# Altium integrated library TI Amplifiers and Linear Operational Amplifier Fully Differential Amplifier.IntLib: 262 symbols (part 10 of 11)
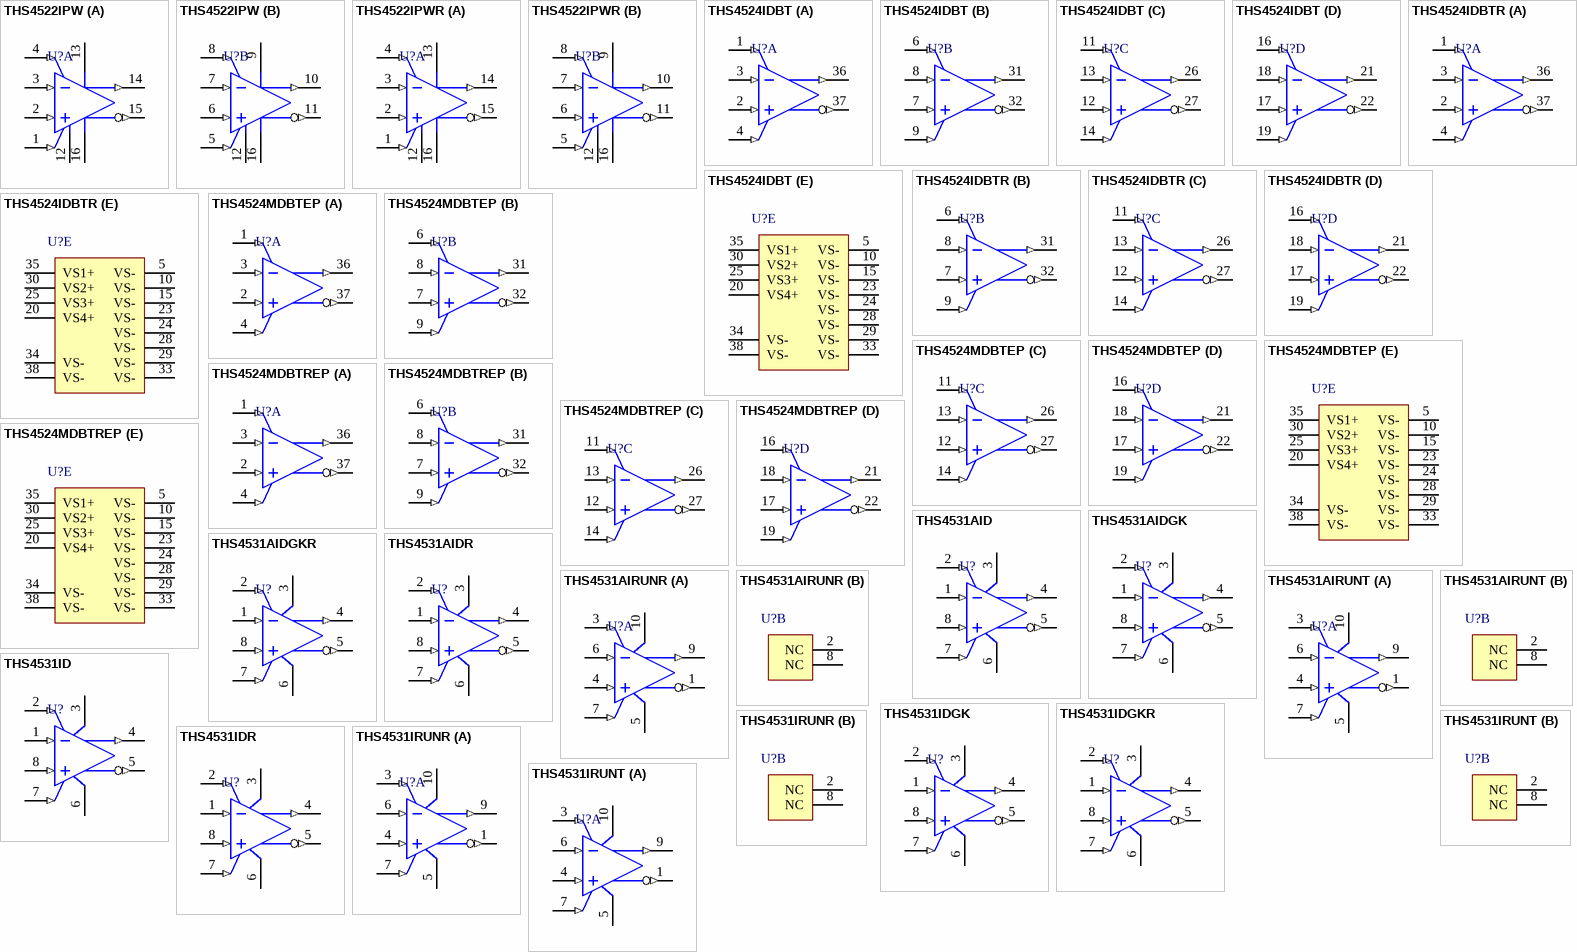
[diagram p16: symbols THS4522IPW to THS4531IRUNT]

## THS4524IDBT
designator U?
Very Low Power Quad Channel Rail-to-Rail Output Fully Differential Amplifier, 2.5 to 5.5 V, -40 to 85 degC, 38-pin SOP (DBT38), Green (RoHS & no Sb/Br); Manufacturer: Texas Instruments; PartNumber: THS4524IDBT; 2nd Harmonic(dBc): 85; 3rd Harmonic(dBc): 90; @ MHz: 1; BW @ Acl(MHz): 135; Io(Typ)(mA): 35; Iq per channel(Max)(mA): 1.2; Number of Channels: 4; Offset Voltage Drift (+/-)(Max)(uV/Degrees Celsius: 2; Rail-Rail: Out; Slew Rate(Typ)(V/us): 420; Vn at Flatband(Typ)(nV/rtHz): 4.6; Vs(Max)(V): 5.5; Vs(Min)(V): 2.5; DatasheetVersion: SBOS458F; PackageVersion: 4073252-6/I, 03/2011; PackageReference: DBT38; PackageDescription: 38-Pin Plastic Small Outline, Body 9.7 x 4.4 mm, Pitch 0.5 mm; Supplier 1: Digi-Key; Supplier Part Number 1: 296-24593-5-ND; Supplier 2: Farnell; Supplier Part Number 2: 1735571; Supplier 3: Newark; Supplier Part Number 3: 05R5042; Supplier 4: Mouser; Supplier Part Number 4: 595-THS4524IDBT; Eco-Plan: Green (RoHS & no Sb/Br); SubFamily: Fully Differential Amplifier; Vio(Max)(mV): 2; Mounting Technology: Surface Mount; Code_JEDEC: MO-153; ComponentLink1Description: Manufacturer URL; ComponentLink1URL: http://www.ti.com/; ComponentLink2Description: Datasheet; ComponentLink2URL: http://www.ti.com/general/docs/lit/getliterature.tsp?genericPartNumber=THS4524&fileType=pdf; ComponentLink3Description: Package Specification; ComponentLink3URL: http://www.ti.com/litv/pdf/mpds368
footprint TI-DBT38_N (SOP, 38-Leads, Body 9.7x4.4mm, Pitch 0.5mm, IPC Medium Density)
footprint TI-DBT38_L (SOP, 38-Leads, Body 9.7x4.4mm, Pitch 0.5mm, IPC High Density)
footprint TI-DBT38_M (SOP, 38-Leads, Body 9.7x4.4mm, Pitch 0.5mm, IPC Low Density)
part A pins: 1 ~{PD}1 (in) "Power down 1. P\D\ = logic low puts channel into low-power mode. P\D\ = logic high or open for normal operation.", 2 VIN1+ (in) "Noninverting amplifier 1 input", 3 VIN1- (in) "Inverting amplifier 1 input", 4 VOCM1 (in) "Common-mode voltage input 1", 36 VOUT1+ (out) "Noninverting amplifier 1 output", 37 VOUT1- (out) "Inverting amplifier 1 output"
part B pins: 6 ~{PD}2 (in) "Power down 2. P\D\ = logic low puts channel into low-power mode. P\D\ = logic high or open for normal operation.", 7 VIN2+ (in) "Noninverting amplifier 2 input", 8 VIN2- (in) "Inverting amplifier 2 input", 9 VOCM2 (in) "Common-mode voltage input 2", 31 VOUT2+ (out) "Noninverting amplifier 2 output", 32 VOUT2- (out) "Inverting amplifier 2 output"
part C pins: 11 ~{PD}3 (in) "Power down 3. P\D\ = logic low puts channel into low-power mode. P\D\ = logic high or open for normal operation.", 12 VIN3+ (in) "Noninverting amplifier 3 input", 13 VIN3- (in) "Inverting amplifier 3 input", 14 VOCM3 (in) "Common-mode voltage input 3", 26 VOUT3+ (out) "Noninverting amplifier3 output", 27 VOUT3- (out) "Inverting amplifier3 output"
part D pins: 16 ~{PD}4 (in) "Power down 4. P\D\ = logic low puts channel into low-power mode. P\D\ = logic high or open for normal operation.", 17 VIN4+ (in) "Noninverting amplifier 4 input", 18 VIN4- (in) "Inverting amplifier 4 input", 19 VOCM4 (in) "Common-mode voltage input 4", 21 VOUT4+ (out) "Noninverting amplifier 4 output", 22 VOUT4- (out) "Inverting amplifier 4 output"
part E pins: 5 VS- (power) "Negative power-supply input. Note that VS- is tied together on multi-channel devices.", 10 VS- (power) "Negative power-supply input. Note that VS- is tied together on multi-channel devices.", 15 VS- (power) "Negative power-supply input. Note that VS- is tied together on multi-channel devices.", 20 VS4+ (power) "Amplifier 4 positive power-supply input", 23 VS- (power) "Negative power-supply input. Note that VS- is tied together on multi-channel devices.", 24 VS- (power) "Negative power-supply input. Note that VS- is tied together on multi-channel devices.", 25 VS3+ (power) "Amplifier 3 positive power-supply input", 28 VS- (power) "Negative power-supply input. Note that VS- is tied together on multi-channel devices.", 29 VS- (power) "Negative power-supply input. Note that VS- is tied together on multi-channel devices.", 30 VS2+ (power) "Amplifier 2 positive power-supply input", 33 VS- (power) "Negative power-supply input. Note that VS- is tied together on multi-channel devices.", 34 VS- (power) "Negative power-supply input. Note that VS- is tied together on multi-channel devices.", 35 VS1+ (power) "Amplifier 1 positive power-supply input", 38 VS- (power) "Negative power-supply input. Note that VS- is tied together on multi-channel devices."

## THS4524IDBTR
designator U?
Very Low Power Quad Channel Rail-to-Rail Output Fully Differential Amplifier, 2.5 to 5.5 V, -40 to 85 degC, 38-pin SOP (DBT38), Green (RoHS & no Sb/Br); Manufacturer: Texas Instruments; PartNumber: THS4524IDBTR; 2nd Harmonic(dBc): 85; 3rd Harmonic(dBc): 90; @ MHz: 1; BW @ Acl(MHz): 135; Io(Typ)(mA): 35; Iq per channel(Max)(mA): 1.2; Number of Channels: 4; Offset Voltage Drift (+/-)(Max)(uV/Degrees Celsius: 2; Rail-Rail: Out; Slew Rate(Typ)(V/us): 420; Vn at Flatband(Typ)(nV/rtHz): 4.6; Vs(Max)(V): 5.5; Vs(Min)(V): 2.5; DatasheetVersion: SBOS458F; PackageVersion: 4073252-6/I, 03/2011; PackageReference: DBT38; PackageDescription: 38-Pin Plastic Small Outline, Body 9.7 x 4.4 mm, Pitch 0.5 mm; Supplier 1: Digi-Key; Supplier Part Number 1: 296-24315-2-ND; Supplier 2: Digi-Key; Supplier Part Number 2: 296-24315-1-ND; Supplier 3: Digi-Key; Supplier Part Number 3: 296-24315-6-ND; Supplier 4: Newark; Supplier Part Number 4: 09R6467; Supplier 5: Mouser; Supplier Part Number 5: 595-THS4524IDBTR; Eco-Plan: Green (RoHS & no Sb/Br); SubFamily: Fully Differential Amplifier; Vio(Max)(mV): 2; Mounting Technology: Surface Mount; Code_JEDEC: MO-153; ComponentLink1Description: Manufacturer URL; ComponentLink1URL: http://www.ti.com/; ComponentLink2Description: Datasheet; ComponentLink2URL: http://www.ti.com/general/docs/lit/getliterature.tsp?genericPartNumber=THS4524&fileType=pdf; ComponentLink3Description: Package Specification; ComponentLink3URL: http://www.ti.com/litv/pdf/mpds368
footprint TI-DBT38_N (SOP, 38-Leads, Body 9.7x4.4mm, Pitch 0.5mm, IPC Medium Density)
footprint TI-DBT38_L (SOP, 38-Leads, Body 9.7x4.4mm, Pitch 0.5mm, IPC High Density)
footprint TI-DBT38_M (SOP, 38-Leads, Body 9.7x4.4mm, Pitch 0.5mm, IPC Low Density)
part A pins: 1 ~{PD}1 (in) "Power down 1. P\D\ = logic low puts channel into low-power mode. P\D\ = logic high or open for normal operation.", 2 VIN1+ (in) "Noninverting amplifier 1 input", 3 VIN1- (in) "Inverting amplifier 1 input", 4 VOCM1 (in) "Common-mode voltage input 1", 36 VOUT1+ (out) "Noninverting amplifier 1 output", 37 VOUT1- (out) "Inverting amplifier 1 output"
part B pins: 6 ~{PD}2 (in) "Power down 2. P\D\ = logic low puts channel into low-power mode. P\D\ = logic high or open for normal operation.", 7 VIN2+ (in) "Noninverting amplifier 2 input", 8 VIN2- (in) "Inverting amplifier 2 input", 9 VOCM2 (in) "Common-mode voltage input 2", 31 VOUT2+ (out) "Noninverting amplifier 2 output", 32 VOUT2- (out) "Inverting amplifier 2 output"
part C pins: 11 ~{PD}3 (in) "Power down 3. P\D\ = logic low puts channel into low-power mode. P\D\ = logic high or open for normal operation.", 12 VIN3+ (in) "Noninverting amplifier 3 input", 13 VIN3- (in) "Inverting amplifier 3 input", 14 VOCM3 (in) "Common-mode voltage input 3", 26 VOUT3+ (out) "Noninverting amplifier3 output", 27 VOUT3- (out) "Inverting amplifier3 output"
part D pins: 16 ~{PD}4 (in) "Power down 4. P\D\ = logic low puts channel into low-power mode. P\D\ = logic high or open for normal operation.", 17 VIN4+ (in) "Noninverting amplifier 4 input", 18 VIN4- (in) "Inverting amplifier 4 input", 19 VOCM4 (in) "Common-mode voltage input 4", 21 VOUT4+ (out) "Noninverting amplifier 4 output", 22 VOUT4- (out) "Inverting amplifier 4 output"
part E pins: 5 VS- (power) "Negative power-supply input. Note that VS- is tied together on multi-channel devices.", 10 VS- (power) "Negative power-supply input. Note that VS- is tied together on multi-channel devices.", 15 VS- (power) "Negative power-supply input. Note that VS- is tied together on multi-channel devices.", 20 VS4+ (power) "Amplifier 4 positive power-supply input", 23 VS- (power) "Negative power-supply input. Note that VS- is tied together on multi-channel devices.", 24 VS- (power) "Negative power-supply input. Note that VS- is tied together on multi-channel devices.", 25 VS3+ (power) "Amplifier 3 positive power-supply input", 28 VS- (power) "Negative power-supply input. Note that VS- is tied together on multi-channel devices.", 29 VS- (power) "Negative power-supply input. Note that VS- is tied together on multi-channel devices.", 30 VS2+ (power) "Amplifier 2 positive power-supply input", 33 VS- (power) "Negative power-supply input. Note that VS- is tied together on multi-channel devices.", 34 VS- (power) "Negative power-supply input. Note that VS- is tied together on multi-channel devices.", 35 VS1+ (power) "Amplifier 1 positive power-supply input", 38 VS- (power) "Negative power-supply input. Note that VS- is tied together on multi-channel devices."

## THS4524MDBTEP
designator U?
Enhanced Product Very Low Power Quad Channel Rail-to-Rail Output Fully Differential Amplifier, 2.5 to 5.5 V, -55 to 125 degC, 38-pin SOP (DBT38), Green (RoHS & no Sb/Br); Manufacturer: Texas Instruments; PartNumber: THS4524MDBTEP; CMRR(Min)(dB): 73.8; GBW(Typ)(MHz): 93; Iq per channel(Max)(mA): 1.25; Number of Channels: 4; Offset Drift(Typ)(uV/C): 2; Rating: HiRel Enhanced Product; Slew Rate(Typ)(V/us): 420; SubFamily: Fully Differential Amplifier, High Speed Amplifier (>=50MHz); Total Supply Voltage(Max)(+5V is 5, +/-5V is 10): 5.5; Total Supply Voltage(Min)(+5V is 5, +/-5V is 10): 2.5; Vio (25C)(Max)(mV): 7; DatasheetVersion: SBOS609; PackageVersion: 4073252-6/I, 03/2011; PackageReference: DBT38; PackageDescription: 38-Pin Plastic Small Outline, Body 9.7 x 4.4 mm, Pitch 0.5 mm; Eco-Plan: Green (RoHS & no Sb/Br); Mounting Technology: Surface Mount; Code_JEDEC: MO-153; ComponentLink1Description: Manufacturer URL; ComponentLink1URL: http://www.ti.com/; ComponentLink2Description: Datasheet; ComponentLink2URL: http://www.ti.com/lit/ds/symlink/ths4524-ep.pdf; ComponentLink3Description: Package Specification; ComponentLink3URL: http://www.ti.com/litv/pdf/mpds368
footprint TI-DBT38_N (SOP, 38-Leads, Body 9.7x4.4mm, Pitch 0.5mm, IPC Medium Density)
footprint TI-DBT38_L (SOP, 38-Leads, Body 9.7x4.4mm, Pitch 0.5mm, IPC High Density)
footprint TI-DBT38_M (SOP, 38-Leads, Body 9.7x4.4mm, Pitch 0.5mm, IPC Low Density)
part A pins: 1 ~{PD}1 (in) "Power down 1. P\D\ = logic low puts channel into low-power mode. P\D\ = logic high or open for normal operation.", 2 VIN1+ (in) "Noninverting amplifier 1 input", 3 VIN1- (in) "Inverting amplifier 1 input", 4 VOCM1 (in) "Common-mode voltage input 1", 36 VOUT1+ (out) "Noninverting amplifier 1 output", 37 VOUT1- (out) "Inverting amplifier 1 output"
part B pins: 6 ~{PD}2 (in) "Power down 2. P\D\ = logic low puts channel into low-power mode. P\D\ = logic high or open for normal operation.", 7 VIN2+ (in) "Noninverting amplifier 2 input", 8 VIN2- (in) "Inverting amplifier 2 input", 9 VOCM2 (in) "Common-mode voltage input 2", 31 VOUT2+ (out) "Noninverting amplifier 2 output", 32 VOUT2- (out) "Inverting amplifier 2 output"
part C pins: 11 ~{PD}3 (in) "Power down 3. P\D\ = logic low puts channel into low-power mode. P\D\ = logic high or open for normal operation.", 12 VIN3+ (in) "Noninverting amplifier 3 input", 13 VIN3- (in) "Inverting amplifier 3 input", 14 VOCM3 (in) "Common-mode voltage input 3", 26 VOUT3+ (out) "Noninverting amplifier3 output", 27 VOUT3- (out) "Inverting amplifier3 output"
part D pins: 16 ~{PD}4 (in) "Power down 4. P\D\ = logic low puts channel into low-power mode. P\D\ = logic high or open for normal operation.", 17 VIN4+ (in) "Noninverting amplifier 4 input", 18 VIN4- (in) "Inverting amplifier 4 input", 19 VOCM4 (in) "Common-mode voltage input 4", 21 VOUT4+ (out) "Noninverting amplifier 4 output", 22 VOUT4- (out) "Inverting amplifier 4 output"
part E pins: 5 VS- (power) "Negative power-supply input. Note that VS- is tied together on multi-channel devices.", 10 VS- (power) "Negative power-supply input. Note that VS- is tied together on multi-channel devices.", 15 VS- (power) "Negative power-supply input. Note that VS- is tied together on multi-channel devices.", 20 VS4+ (power) "Amplifier 4 positive power-supply input", 23 VS- (power) "Negative power-supply input. Note that VS- is tied together on multi-channel devices.", 24 VS- (power) "Negative power-supply input. Note that VS- is tied together on multi-channel devices.", 25 VS3+ (power) "Amplifier 3 positive power-supply input", 28 VS- (power) "Negative power-supply input. Note that VS- is tied together on multi-channel devices.", 29 VS- (power) "Negative power-supply input. Note that VS- is tied together on multi-channel devices.", 30 VS2+ (power) "Amplifier 2 positive power-supply input", 33 VS- (power) "Negative power-supply input. Note that VS- is tied together on multi-channel devices.", 34 VS- (power) "Negative power-supply input. Note that VS- is tied together on multi-channel devices.", 35 VS1+ (power) "Amplifier 1 positive power-supply input", 38 VS- (power) "Negative power-supply input. Note that VS- is tied together on multi-channel devices."

## THS4524MDBTREP
designator U?
Enhanced Product Very Low Power Quad Channel Rail-to-Rail Output Fully Differential Amplifier, 2.5 to 5.5 V, -55 to 125 degC, 38-pin SOP (DBT38), Green (RoHS & no Sb/Br); Manufacturer: Texas Instruments; PartNumber: THS4524MDBTREP; CMRR(Min)(dB): 73.8; GBW(Typ)(MHz): 93; Iq per channel(Max)(mA): 1.25; Number of Channels: 4; Offset Drift(Typ)(uV/C): 2; Packing: LARGE T&R; Rating: HiRel Enhanced Product; Slew Rate(Typ)(V/us): 420; SubFamily: Fully Differential Amplifier, High Speed Amplifier (>=50MHz); Total Supply Voltage(Max)(+5V is 5, +/-5V is 10): 5.5; Total Supply Voltage(Min)(+5V is 5, +/-5V is 10): 2.5; Vio (25C)(Max)(mV): 7; DatasheetVersion: SBOS609; PackageVersion: 4073252-6/I, 03/2011; PackageReference: DBT38; PackageDescription: 38-Pin Plastic Small Outline, Body 9.7 x 4.4 mm, Pitch 0.5 mm; Supplier 1: Digi-Key; Supplier Part Number 1: THS4524MDBTREP-ND; Supplier 2: Mouser; Supplier Part Number 2: 595-THS4524MDBTREP; Eco-Plan: Green (RoHS & no Sb/Br); Mounting Technology: Surface Mount; Code_JEDEC: MO-153; ComponentLink1Description: Manufacturer URL; ComponentLink1URL: http://www.ti.com/; ComponentLink2Description: Datasheet; ComponentLink2URL: http://www.ti.com/lit/ds/symlink/ths4524-ep.pdf; ComponentLink3Description: Package Specification; ComponentLink3URL: http://www.ti.com/litv/pdf/mpds368
footprint TI-DBT38_N (SOP, 38-Leads, Body 9.7x4.4mm, Pitch 0.5mm, IPC Medium Density)
footprint TI-DBT38_L (SOP, 38-Leads, Body 9.7x4.4mm, Pitch 0.5mm, IPC High Density)
footprint TI-DBT38_M (SOP, 38-Leads, Body 9.7x4.4mm, Pitch 0.5mm, IPC Low Density)
part A pins: 1 ~{PD}1 (in) "Power down 1. P\D\ = logic low puts channel into low-power mode. P\D\ = logic high or open for normal operation.", 2 VIN1+ (in) "Noninverting amplifier 1 input", 3 VIN1- (in) "Inverting amplifier 1 input", 4 VOCM1 (in) "Common-mode voltage input 1", 36 VOUT1+ (out) "Noninverting amplifier 1 output", 37 VOUT1- (out) "Inverting amplifier 1 output"
part B pins: 6 ~{PD}2 (in) "Power down 2. P\D\ = logic low puts channel into low-power mode. P\D\ = logic high or open for normal operation.", 7 VIN2+ (in) "Noninverting amplifier 2 input", 8 VIN2- (in) "Inverting amplifier 2 input", 9 VOCM2 (in) "Common-mode voltage input 2", 31 VOUT2+ (out) "Noninverting amplifier 2 output", 32 VOUT2- (out) "Inverting amplifier 2 output"
part C pins: 11 ~{PD}3 (in) "Power down 3. P\D\ = logic low puts channel into low-power mode. P\D\ = logic high or open for normal operation.", 12 VIN3+ (in) "Noninverting amplifier 3 input", 13 VIN3- (in) "Inverting amplifier 3 input", 14 VOCM3 (in) "Common-mode voltage input 3", 26 VOUT3+ (out) "Noninverting amplifier3 output", 27 VOUT3- (out) "Inverting amplifier3 output"
part D pins: 16 ~{PD}4 (in) "Power down 4. P\D\ = logic low puts channel into low-power mode. P\D\ = logic high or open for normal operation.", 17 VIN4+ (in) "Noninverting amplifier 4 input", 18 VIN4- (in) "Inverting amplifier 4 input", 19 VOCM4 (in) "Common-mode voltage input 4", 21 VOUT4+ (out) "Noninverting amplifier 4 output", 22 VOUT4- (out) "Inverting amplifier 4 output"
part E pins: 5 VS- (power) "Negative power-supply input. Note that VS- is tied together on multi-channel devices.", 10 VS- (power) "Negative power-supply input. Note that VS- is tied together on multi-channel devices.", 15 VS- (power) "Negative power-supply input. Note that VS- is tied together on multi-channel devices.", 20 VS4+ (power) "Amplifier 4 positive power-supply input", 23 VS- (power) "Negative power-supply input. Note that VS- is tied together on multi-channel devices.", 24 VS- (power) "Negative power-supply input. Note that VS- is tied together on multi-channel devices.", 25 VS3+ (power) "Amplifier 3 positive power-supply input", 28 VS- (power) "Negative power-supply input. Note that VS- is tied together on multi-channel devices.", 29 VS- (power) "Negative power-supply input. Note that VS- is tied together on multi-channel devices.", 30 VS2+ (power) "Amplifier 2 positive power-supply input", 33 VS- (power) "Negative power-supply input. Note that VS- is tied together on multi-channel devices.", 34 VS- (power) "Negative power-supply input. Note that VS- is tied together on multi-channel devices.", 35 VS1+ (power) "Amplifier 1 positive power-supply input", 38 VS- (power) "Negative power-supply input. Note that VS- is tied together on multi-channel devices."

## THS4531AID
designator U?
Ultra Low Power, RRO, Fully Differential Amplifier, 2.5 to 5.5 V, -40 to 125 degC, 8-pin SOIC (D8), Green (RoHS & no Sb/Br); Manufacturer: Texas Instruments; PartNumber: THS4531AID; CMRR(Min)(dB): 90; GBW(Typ)(MHz): 36; Iq per channel(Max)(mA): 0.35; Number of Channels: 1; Offset Drift(Typ)(uV/C): 3; Packing: TUBE; Rating: Catalog; Slew Rate(Typ)(V/us): 15; Total Supply Voltage(Max)(+5V is 5, +/-5V is 10): 5.5; Total Supply Voltage(Min)(+5V is 5, +/-5V is 10): 2.5; Vio (25C)(Max)(mV): 0.4; DatasheetVersion: SLOS823A; PackageVersion: 4040047-3/M, 06/2011; PackageReference: D8; PackageDescription: 8-Pin Plastic Small Outline, Body 4.9 x 3.9 mm, Pitch 1.27 mm; Supplier 1: Digi-Key; Supplier Part Number 1: 296-35604-5-ND; Supplier 2: Farnell; Supplier Part Number 2: 2307920; Supplier 3: Newark; Supplier Part Number 3: 55W7338; Supplier 4: Mouser; Supplier Part Number 4: 595-THS4531AID; Eco-Plan: Green (RoHS & no Sb/Br); SubFamily: Fully Differential Amplifier; Mounting Technology: Surface Mount; Code_JEDEC: MS-012; ComponentLink1Description: Manufacturer URL; ComponentLink1URL: http://www.ti.com/; ComponentLink2Description: Datasheet; ComponentLink2URL: http://www.ti.com/lit/ds/symlink/ths4531a.pdf; ComponentLink3Description: Package Specification; ComponentLink3URL: http://www.ti.com/litv/pdf/msoi002j
footprint TI-D8_N (SOIC, 8-Leads, Body 4.9x3.9mm, Pitch 1.27mm, IPC Medium Density)
footprint TI-D8_L (SOIC, 8-Leads, Body 4.9x3.9mm, Pitch 1.27mm, IPC High Density)
footprint TI-D8_M (SOIC, 8-Leads, Body 4.9x3.9mm, Pitch 1.27mm, IPC Low Density)
pins: 1 VIN- (in) "Inverting amplifier input", 2 VOCM (in) "Common-mode voltage input", 3 VS+ (power) "Amplifier positive power-supply input", 4 VOUT+ (out) "Noninverting amplifier output", 5 VOUT- (out) "Inverting amplifier output", 6 VS- (power) "Amplifier negative power-supply input. Note that VS- is tied together on multi-channel devices.", 7 ~{PD} (in) "Power down. P\D\ = logic low puts device into low-power mode. P\D\ = logic high or open for normal operation.", 8 VIN+ (in) "Noninverting amplifier input"

## THS4531AIDGK
designator U?
Ultra Low Power, RRO, Fully Differential Amplifier, 2.5 to 5.5 V, -40 to 125 degC, 8-pin SOP (DGK8), Green (RoHS & no Sb/Br); Manufacturer: Texas Instruments; PartNumber: THS4531AIDGK; CMRR(Min)(dB): 90; GBW(Typ)(MHz): 27; Iq per channel(Max)(mA): 0.35; Number of Channels: 1; Offset Drift(Typ)(uV/C): 3; Packing: TUBE; Rating: Catalog; Slew Rate(Typ)(V/us): 220; Total Supply Voltage(Max)(+5V is 5, +/-5V is 10): 5.5; Total Supply Voltage(Min)(+5V is 5, +/-5V is 10): 2.5; Vio (25C)(Max)(mV): 0.4; DatasheetVersion: SLOS823A; PackageVersion: 4073329/E, 05/2006; PackageReference: DGK8; PackageDescription: 8-Pin Thin Small Outline, Body 3 x 3 mm, Pitch 0.65 mm; Supplier 1: Digi-Key; Supplier Part Number 1: 296-35600-5-ND; Supplier 2: Newark; Supplier Part Number 2: 55W7339; Supplier 3: Mouser; Supplier Part Number 3: 595-THS4531AIDGK; Eco-Plan: Green (RoHS & no Sb/Br); SubFamily: Fully Differential Amplifier; Mounting Technology: Surface Mount; Code_JEDEC: MO-187; ComponentLink1Description: Manufacturer URL; ComponentLink1URL: http://www.ti.com/; ComponentLink2Description: Datasheet; ComponentLink2URL: http://www.ti.com/lit/ds/symlink/ths4531a.pdf; ComponentLink3Description: Package Specification; ComponentLink3URL: http://www.ti.com/litv/pdf/mpds028d
footprint TI-DGK8_N (SOP, 8-Leads, Body 3x3mm, Pitch 0.65mm, IPC Medium Density)
footprint TI-DGK8_L (SOP, 8-Leads, Body 3x3mm, Pitch 0.65mm, IPC High Density)
footprint TI-DGK8_M (SOP, 8-Leads, Body 3x3mm, Pitch 0.65mm, IPC Low Density)
pins: 1 VIN- (in) "Inverting amplifier input", 2 VOCM (in) "Common-mode voltage input", 3 VS+ (power) "Amplifier positive power-supply input", 4 VOUT+ (out) "Noninverting amplifier output", 5 VOUT- (out) "Inverting amplifier output", 6 VS- (power) "Amplifier negative power-supply input. Note that VS- is tied together on multi-channel devices.", 7 ~{PD} (in) "Power down. P\D\ = logic low puts device into low-power mode. P\D\ = logic high or open for normal operation.", 8 VIN+ (in) "Noninverting amplifier input"

## THS4531AIDGKR
designator U?
Ultra Low Power, RRO, Fully Differential Amplifier, 2.5 to 5.5 V, -40 to 125 degC, 8-pin SOP (DGK8), Green (RoHS & no Sb/Br); Manufacturer: Texas Instruments; PartNumber: THS4531AIDGKR; CMRR(Min)(dB): 90; GBW(Typ)(MHz): 27; Iq per channel(Max)(mA): 0.35; Number of Channels: 1; Offset Drift(Typ)(uV/C): 3; Packing: LARGE T&R; Rating: Catalog; Slew Rate(Typ)(V/us): 220; Total Supply Voltage(Max)(+5V is 5, +/-5V is 10): 5.5; Total Supply Voltage(Min)(+5V is 5, +/-5V is 10): 2.5; Vio (25C)(Max)(mV): 0.4; DatasheetVersion: SLOS823A; PackageVersion: 4073329/E, 05/2006; PackageReference: DGK8; PackageDescription: 8-Pin Thin Small Outline, Body 3 x 3 mm, Pitch 0.65 mm; Supplier 1: Digi-Key; Supplier Part Number 1: THS4531AIDGKR-ND; Supplier 2: Newark; Supplier Part Number 2: 55W7340; Supplier 3: Mouser; Supplier Part Number 3: 595-THS4531AIDGKR; Eco-Plan: Green (RoHS & no Sb/Br); SubFamily: Fully Differential Amplifier; Mounting Technology: Surface Mount; Code_JEDEC: MO-187; ComponentLink1Description: Manufacturer URL; ComponentLink1URL: http://www.ti.com/; ComponentLink2Description: Datasheet; ComponentLink2URL: http://www.ti.com/lit/ds/symlink/ths4531a.pdf; ComponentLink3Description: Package Specification; ComponentLink3URL: http://www.ti.com/litv/pdf/mpds028d
footprint TI-DGK8_N (SOP, 8-Leads, Body 3x3mm, Pitch 0.65mm, IPC Medium Density)
footprint TI-DGK8_L (SOP, 8-Leads, Body 3x3mm, Pitch 0.65mm, IPC High Density)
footprint TI-DGK8_M (SOP, 8-Leads, Body 3x3mm, Pitch 0.65mm, IPC Low Density)
pins: 1 VIN- (in) "Inverting amplifier input", 2 VOCM (in) "Common-mode voltage input", 3 VS+ (power) "Amplifier positive power-supply input", 4 VOUT+ (out) "Noninverting amplifier output", 5 VOUT- (out) "Inverting amplifier output", 6 VS- (power) "Amplifier negative power-supply input. Note that VS- is tied together on multi-channel devices.", 7 ~{PD} (in) "Power down. P\D\ = logic low puts device into low-power mode. P\D\ = logic high or open for normal operation.", 8 VIN+ (in) "Noninverting amplifier input"

## THS4531AIDR
designator U?
Ultra Low Power, RRO, Fully Differential Amplifier, 2.5 to 5.5 V, -40 to 125 degC, 8-pin SOIC (D8), Green (RoHS & no Sb/Br); Manufacturer: Texas Instruments; PartNumber: THS4531AIDR; CMRR(Min)(dB): 90; GBW(Typ)(MHz): 27; Iq per channel(Max)(mA): 0.35; Number of Channels: 1; Offset Drift(Typ)(uV/C): 3; Packing: LARGE T&R; Rating: Catalog; Slew Rate(Typ)(V/us): 220; Total Supply Voltage(Max)(+5V is 5, +/-5V is 10): 5.5; Total Supply Voltage(Min)(+5V is 5, +/-5V is 10): 2.5; Vio (25C)(Max)(mV): 0.4; DatasheetVersion: SLOS823A; PackageVersion: 4040047-3/M, 06/2011; PackageReference: D8; PackageDescription: 8-Pin Plastic Small Outline, Body 4.9 x 3.9 mm, Pitch 1.27 mm; Supplier 1: Digi-Key; Supplier Part Number 1: THS4531AIDR-ND; Supplier 2: Newark; Supplier Part Number 2: 55W7341; Supplier 3: Mouser; Supplier Part Number 3: 595-THS4531AIDR; Eco-Plan: Green (RoHS & no Sb/Br); SubFamily: Fully Differential Amplifier; Mounting Technology: Surface Mount; Code_JEDEC: MS-012; ComponentLink1Description: Manufacturer URL; ComponentLink1URL: http://www.ti.com/; ComponentLink2Description: Datasheet; ComponentLink2URL: http://www.ti.com/lit/ds/symlink/ths4531a.pdf; ComponentLink3Description: Package Specification; ComponentLink3URL: http://www.ti.com/litv/pdf/msoi002j
footprint TI-D8_N (SOIC, 8-Leads, Body 4.9x3.9mm, Pitch 1.27mm, IPC Medium Density)
footprint TI-D8_L (SOIC, 8-Leads, Body 4.9x3.9mm, Pitch 1.27mm, IPC High Density)
footprint TI-D8_M (SOIC, 8-Leads, Body 4.9x3.9mm, Pitch 1.27mm, IPC Low Density)
pins: 1 VIN- (in) "Inverting amplifier input", 2 VOCM (in) "Common-mode voltage input", 3 VS+ (power) "Amplifier positive power-supply input", 4 VOUT+ (out) "Noninverting amplifier output", 5 VOUT- (out) "Inverting amplifier output", 6 VS- (power) "Amplifier negative power-supply input. Note that VS- is tied together on multi-channel devices.", 7 ~{PD} (in) "Power down. P\D\ = logic low puts device into low-power mode. P\D\ = logic high or open for normal operation.", 8 VIN+ (in) "Noninverting amplifier input"

## THS4531AIRUNR
designator U?
Ultra Low Power, RRO, Fully Differential Amplifier, 2.5 to 5.5 V, -40 to 125 degC, 10-pin QFN (RUN10), Green (RoHS & no Sb/Br); Manufacturer: Texas Instruments; PartNumber: THS4531AIRUNR; CMRR(Min)(dB): 90; GBW(Typ)(MHz): 27; Iq per channel(Max)(mA): 0.35; Number of Channels: 1; Offset Drift(Typ)(uV/C): 3; Packing: LARGE T&R; Rating: Catalog; Slew Rate(Typ)(V/us): 220; Total Supply Voltage(Max)(+5V is 5, +/-5V is 10): 5.5; Total Supply Voltage(Min)(+5V is 5, +/-5V is 10): 2.5; Vio (25C)(Max)(mV): 0.4; DatasheetVersion: SLOS823A; PackageVersion: 4209107/B, 11/2010; PackageReference: RUN10; PackageDescription: 10-Pin Plastic Quad Flatpack No-Lead, Body 2 x 2 mm, Pitch 0.5 mm; Supplier 1: Digi-Key; Supplier Part Number 1: THS4531AIRUNR-ND; Supplier 2: Newark; Supplier Part Number 2: 74W0714; Supplier 3: Mouser; Supplier Part Number 3: N/A; Eco-Plan: Green (RoHS & no Sb/Br); SubFamily: Fully Differential Amplifier; Mounting Technology: Surface Mount; ComponentLink1Description: Manufacturer URL; ComponentLink1URL: http://www.ti.com/; ComponentLink2Description: Datasheet; ComponentLink2URL: http://www.ti.com/lit/ds/symlink/ths4531a.pdf; ComponentLink3Description: Package Specification; ComponentLink3URL: http://www.ti.com/lit/ml/mpqf225a/mpqf225a.pdf
footprint TI-RUN10_V (QFN, 10-Leads, Body 2x2mm, Pitch 0.5mm, TI Recommended)
part A pins: 1 VOUT- (out) "Inverted amplifier output", 3 ~{PD} (in) "Power-down, P\D\ = logic low = low power mode, P\D\ = logic high = normal operation", 4 VIN+ (in) "Noninverted amplifier input", 5 VS- (power) "Amplifier negative power-supply input. Note VS- tied together on multichannel devices.", 6 VIN- (in) "Inverting amplifier input", 7 VOCM (in) "Common-mode voltage input", 9 VOUT+ (out) "Noninverted amplifier output", 10 VS+ (power) "Amplifier positive power-supply input"
part B pins: 2 NC "No internal connection", 8 NC "No internal connection"

## THS4531AIRUNT
designator U?
Ultra Low Power, RRO, Fully Differential Amplifier, 2.5 to 5.5 V, -40 to 125 degC, 10-pin QFN (RUN10), Green (RoHS & no Sb/Br); Manufacturer: Texas Instruments; PartNumber: THS4531AIRUNT; CMRR(Min)(dB): 90; GBW(Typ)(MHz): 27; Iq per channel(Max)(mA): 0.35; Number of Channels: 1; Offset Drift(Typ)(uV/C): 3; Packing: SMALL T&R; Rating: Catalog; Slew Rate(Typ)(V/us): 220; Total Supply Voltage(Max)(+5V is 5, +/-5V is 10): 5.5; Total Supply Voltage(Min)(+5V is 5, +/-5V is 10): 2.5; Vio (25C)(Max)(mV): 0.4; DatasheetVersion: SLOS823A; PackageVersion: 4209107/B, 11/2010; PackageReference: RUN10; PackageDescription: 10-Pin Plastic Quad Flatpack No-Lead, Body 2 x 2 mm, Pitch 0.5 mm; Supplier 1: Digi-Key; Supplier Part Number 1: THS4531AIRUNT-ND; Supplier 2: Newark; Supplier Part Number 2: 74W0715; Supplier 3: Mouser; Supplier Part Number 3: N/A; Eco-Plan: Green (RoHS & no Sb/Br); SubFamily: Fully Differential Amplifier; Mounting Technology: Surface Mount; ComponentLink1Description: Manufacturer URL; ComponentLink1URL: http://www.ti.com/; ComponentLink2Description: Datasheet; ComponentLink2URL: http://www.ti.com/lit/ds/symlink/ths4531a.pdf; ComponentLink3Description: Package Specification; ComponentLink3URL: http://www.ti.com/lit/ml/mpqf225a/mpqf225a.pdf
footprint TI-RUN10_V (QFN, 10-Leads, Body 2x2mm, Pitch 0.5mm, TI Recommended)
part A pins: 1 VOUT- (out) "Inverted amplifier output", 3 ~{PD} (in) "Power-down, P\D\ = logic low = low power mode, P\D\ = logic high = normal operation", 4 VIN+ (in) "Noninverted amplifier input", 5 VS- (power) "Amplifier negative power-supply input. Note VS- tied together on multichannel devices.", 6 VIN- (in) "Inverting amplifier input", 7 VOCM (in) "Common-mode voltage input", 9 VOUT+ (out) "Noninverted amplifier output", 10 VS+ (power) "Amplifier positive power-supply input"
part B pins: 2 NC "No internal connection", 8 NC "No internal connection"

## THS4531ID
designator U?
Ultra Low Power 0.25 mA, RRO, Fully Differential Amplifier, 2.5 to 5.5V, -40 to 125 degC, 8-pin SOIC (D8), Green (RoHS & no Sb/Br); Manufacturer: Texas Instruments; PartNumber: THS4531ID; 2nd Harmonic(dBc): -128; 3rd Harmonic(dBc): -137; BW @ Acl(MHz): 24; Io(Typ)(mA): 26; Iq per channel(Max)(mA): 0.35; Number of Channels: 1; Offset Voltage Drift (+/-)(Max)(uV/Degrees Celsius: 10; Settling Time (0.1%)(Typ)(ns): 60; Slew Rate(Typ)(V/us): 15; THD (Fc is 1 MHz)(Typ)(dB): -107; Vs(Max)(V): 5.5; Vs(Min)(V): 2.5; DatasheetVersion: SLOS358B; PackageVersion: 4040047-3/M, 06/2011; PackageReference: D8; PackageDescription: 8-Pin Plastic Small Outline, Body 4.9 x 3.9 mm, Pitch 1.27 mm; Supplier 1: Digi-Key; Supplier Part Number 1: 296-30429-5-ND; Supplier 2: Farnell; Supplier Part Number 2: 2115228; Supplier 3: Newark; Supplier Part Number 3: 05W5826; Supplier 4: Mouser; Supplier Part Number 4: 595-THS4531ID; Eco-Plan: Green (RoHS & no Sb/Br); SubFamily: Fully Differential Amplifier; Vio(Max)(mV): 1; Vn at Flatband(Typ)(nV/rtHz): 10; Mounting Technology: Surface Mount; Code_JEDEC: MS-012; ComponentLink1Description: Manufacturer URL; ComponentLink1URL: http://www.ti.com/; ComponentLink2Description: Datasheet; ComponentLink2URL: http://www.ti.com/general/docs/lit/getliterature.tsp?genericPartNumber=THS4531&fileType=pdf; ComponentLink3Description: Package Specification; ComponentLink3URL: http://www.ti.com/litv/pdf/msoi002j
footprint TI-D8_N (SOIC, 8-Leads, Body 4.9x3.9mm, Pitch 1.27mm, IPC Medium Density)
footprint TI-D8_L (SOIC, 8-Leads, Body 4.9x3.9mm, Pitch 1.27mm, IPC High Density)
footprint TI-D8_M (SOIC, 8-Leads, Body 4.9x3.9mm, Pitch 1.27mm, IPC Low Density)
pins: 1 VIN- (in) "Inverting amplifier input", 2 VOCM (in) "Common-mode voltage input", 3 VS+ (power) "Amplifier positive power-supply input", 4 VOUT+ (out) "Noninverting amplifier output", 5 VOUT- (out) "Inverting amplifier output", 6 VS- (power) "Amplifier negative power-supply input. Note that VS- is tied together on multi-channel devices.", 7 ~{PD} (in) "Power down. P\D\ = logic low puts device into low-power mode. P\D\ = logic high or open for normal operation.", 8 VIN+ (in) "Noninverting amplifier input"

## THS4531IDGK
designator U?
Ultra Low Power 0.25 mA, RRO, Fully Differential Amplifier, 2.5 to 5.5 V, -40 to 125 degC, 8-pin SOP (DGK8), Green (RoHS & no Sb/Br); Manufacturer: Texas Instruments; PartNumber: THS4531IDGK; 2nd Harmonic(dBc): -128; 3rd Harmonic(dBc): -137; BW @ Acl(MHz): 24; Io(Typ)(mA): 26; Iq per channel(Max)(mA): 0.35; Number of Channels: 1; Offset Voltage Drift (+/-)(Max)(uV/Degrees Celsius: 10; Settling Time (0.1%)(Typ)(ns): 60; Slew Rate(Typ)(V/us): 15; THD (Fc is 1 MHz)(Typ)(dB): -107; Vs(Max)(V): 5.5; Vs(Min)(V): 2.5; DatasheetVersion: SLOS358B; PackageVersion: 4073329/E, 05/2006; PackageReference: DGK8; PackageDescription: 8-Pin Thin Small Outline, Body 3 x 3 mm, Pitch 0.65 mm; Supplier 1: Digi-Key; Supplier Part Number 1: 296-30313-5-ND; Supplier 2: Farnell; Supplier Part Number 2: 2099896; Supplier 3: Newark; Supplier Part Number 3: 92T2315; Supplier 4: Mouser; Supplier Part Number 4: 595-THS4531IDGK; Eco-Plan: Green (RoHS & no Sb/Br); SubFamily: Fully Differential Amplifier; Vio(Max)(mV): 1; Vn at Flatband(Typ)(nV/rtHz): 10; Mounting Technology: Surface Mount; Code_JEDEC: MO-187; ComponentLink1Description: Manufacturer URL; ComponentLink1URL: http://www.ti.com/; ComponentLink2Description: Datasheet; ComponentLink2URL: http://www.ti.com/general/docs/lit/getliterature.tsp?genericPartNumber=THS4531&fileType=pdf; ComponentLink3Description: Package Specification; ComponentLink3URL: http://www.ti.com/litv/pdf/mpds028d
footprint TI-DGK8_N (SOP, 8-Leads, Body 3x3mm, Pitch 0.65mm, IPC Medium Density)
footprint TI-DGK8_L (SOP, 8-Leads, Body 3x3mm, Pitch 0.65mm, IPC High Density)
footprint TI-DGK8_M (SOP, 8-Leads, Body 3x3mm, Pitch 0.65mm, IPC Low Density)
pins: 1 VIN- (in) "Inverting amplifier input", 2 VOCM (in) "Common-mode voltage input", 3 VS+ (power) "Amplifier positive power-supply input", 4 VOUT+ (out) "Noninverting amplifier output", 5 VOUT- (out) "Inverting amplifier output", 6 VS- (power) "Amplifier negative power-supply input. Note that VS- is tied together on multi-channel devices.", 7 ~{PD} (in) "Power down. P\D\ = logic low puts device into low-power mode. P\D\ = logic high or open for normal operation.", 8 VIN+ (in) "Noninverting amplifier input"

## THS4531IDGKR
designator U?
Ultra Low Power 0.25 mA, RRO, Fully Differential Amplifier, 2.5 to 5.5 V, -40 to 125 degC, 8-pin SOP (DGK8), Green (RoHS & no Sb/Br); Manufacturer: Texas Instruments; PartNumber: THS4531IDGKR; 2nd Harmonic(dBc): -128; 3rd Harmonic(dBc): -137; BW @ Acl(MHz): 24; Io(Typ)(mA): 26; Iq per channel(Max)(mA): 0.35; Number of Channels: 1; Offset Voltage Drift (+/-)(Max)(uV/Degrees Celsius: 10; Settling Time (0.1%)(Typ)(ns): 60; Slew Rate(Typ)(V/us): 15; THD (Fc is 1 MHz)(Typ)(dB): -107; Vs(Max)(V): 5.5; Vs(Min)(V): 2.5; DatasheetVersion: SLOS358B; PackageVersion: 4073329/E, 05/2006; PackageReference: DGK8; PackageDescription: 8-Pin Thin Small Outline, Body 3 x 3 mm, Pitch 0.65 mm; Supplier 1: Digi-Key; Supplier Part Number 1: 296-30342-2-ND; Supplier 2: Digi-Key; Supplier Part Number 2: 296-30342-1-ND; Supplier 3: Digi-Key; Supplier Part Number 3: 296-30342-6-ND; Supplier 4: Mouser; Supplier Part Number 4: 595-THS4531IDGKR; Eco-Plan: Green (RoHS & no Sb/Br); SubFamily: Fully Differential Amplifier; Vio(Max)(mV): 1; Vn at Flatband(Typ)(nV/rtHz): 10; Mounting Technology: Surface Mount; Code_JEDEC: MO-187; ComponentLink1Description: Manufacturer URL; ComponentLink1URL: http://www.ti.com/; ComponentLink2Description: Datasheet; ComponentLink2URL: http://www.ti.com/general/docs/lit/getliterature.tsp?genericPartNumber=THS4531&fileType=pdf; ComponentLink3Description: Package Specification; ComponentLink3URL: http://www.ti.com/litv/pdf/mpds028d
footprint TI-DGK8_N (SOP, 8-Leads, Body 3x3mm, Pitch 0.65mm, IPC Medium Density)
footprint TI-DGK8_L (SOP, 8-Leads, Body 3x3mm, Pitch 0.65mm, IPC High Density)
footprint TI-DGK8_M (SOP, 8-Leads, Body 3x3mm, Pitch 0.65mm, IPC Low Density)
pins: 1 VIN- (in) "Inverting amplifier input", 2 VOCM (in) "Common-mode voltage input", 3 VS+ (power) "Amplifier positive power-supply input", 4 VOUT+ (out) "Noninverting amplifier output", 5 VOUT- (out) "Inverting amplifier output", 6 VS- (power) "Amplifier negative power-supply input. Note that VS- is tied together on multi-channel devices.", 7 ~{PD} (in) "Power down. P\D\ = logic low puts device into low-power mode. P\D\ = logic high or open for normal operation.", 8 VIN+ (in) "Noninverting amplifier input"

## THS4531IDR
designator U?
Ultra Low Power 0.25 mA, RRO, Fully Differential Amplifier, 2.5 to 5.5 V, -40 to 125 degC, 8-pin SOIC (D8), Green (RoHS & no Sb/Br); Manufacturer: Texas Instruments; PartNumber: THS4531IDR; 2nd Harmonic(dBc): -128; 3rd Harmonic(dBc): -137; BW @ Acl(MHz): 24; Io(Typ)(mA): 26; Iq per channel(Max)(mA): 0.35; Number of Channels: 1; Offset Voltage Drift (+/-)(Max)(uV/Degrees Celsius: 10; Settling Time (0.1%)(Typ)(ns): 60; Slew Rate(Typ)(V/us): 15; THD (Fc is 1 MHz)(Typ)(dB): -107; Vs(Max)(V): 5.5; Vs(Min)(V): 2.5; DatasheetVersion: SLOS358B; PackageVersion: 4040047-3/M, 06/2011; PackageReference: D8; PackageDescription: 8-Pin Plastic Small Outline, Body 4.9 x 3.9 mm, Pitch 1.27 mm; Supplier 1: Digi-Key; Supplier Part Number 1: 296-30379-2-ND; Supplier 2: Digi-Key; Supplier Part Number 2: 296-30379-1-ND; Supplier 3: Digi-Key; Supplier Part Number 3: 296-30379-6-ND; Supplier 4: Mouser; Supplier Part Number 4: 595-THS4531IDR; Eco-Plan: Green (RoHS & no Sb/Br); SubFamily: Fully Differential Amplifier; Vio(Max)(mV): 1; Vn at Flatband(Typ)(nV/rtHz): 10; Mounting Technology: Surface Mount; Code_JEDEC: MS-012; ComponentLink1Description: Manufacturer URL; ComponentLink1URL: http://www.ti.com/; ComponentLink2Description: Datasheet; ComponentLink2URL: http://www.ti.com/general/docs/lit/getliterature.tsp?genericPartNumber=THS4531&fileType=pdf; ComponentLink3Description: Package Specification; ComponentLink3URL: http://www.ti.com/litv/pdf/msoi002j
footprint TI-D8_N (SOIC, 8-Leads, Body 4.9x3.9mm, Pitch 1.27mm, IPC Medium Density)
footprint TI-D8_L (SOIC, 8-Leads, Body 4.9x3.9mm, Pitch 1.27mm, IPC High Density)
footprint TI-D8_M (SOIC, 8-Leads, Body 4.9x3.9mm, Pitch 1.27mm, IPC Low Density)
pins: 1 VIN- (in) "Inverting amplifier input", 2 VOCM (in) "Common-mode voltage input", 3 VS+ (power) "Amplifier positive power-supply input", 4 VOUT+ (out) "Noninverting amplifier output", 5 VOUT- (out) "Inverting amplifier output", 6 VS- (power) "Amplifier negative power-supply input. Note that VS- is tied together on multi-channel devices.", 7 ~{PD} (in) "Power down. P\D\ = logic low puts device into low-power mode. P\D\ = logic high or open for normal operation.", 8 VIN+ (in) "Noninverting amplifier input"

## THS4531IRUNR
designator U?
Ultra Low Power 0.25 mA, RRO, Fully Differential Amplifier, 2.5 to 5.5 V, -40 to 125 degC, 10-pin QFN (RUN10), Green (RoHS & no Sb/Br); Manufacturer: Texas Instruments; PartNumber: THS4531IRUNR; 2nd Harmonic(dBc): -127; 3rd Harmonic(dBc): -135; @ MHz: 0.01; BW @ Acl(MHz): 34; Io(Typ)(mA): 26; Iq per channel(Max)(mA): 0.35; Number of Channels: 1; Offset Voltage Drift (+/-)(Max)(uV/Degrees Celsius: 10; Rail-Rail: Out; Settling Time (0.1%)(Typ)(ns): 60; Slew Rate(Typ)(V/us): 15; Vs(Max)(V): 5.5; Vs(Min)(V): 2.5; DatasheetVersion: SLOS358B; PackageVersion: 4209107/B, 11/2010; PackageReference: RUN10; PackageDescription: 10-Pin Plastic Quad Flatpack No-Lead, Body 2 x 2 mm, Pitch 0.5 mm; Supplier 1: Digi-Key; Supplier Part Number 1: THS4531IRUNR-ND; Supplier 2: Mouser; Supplier Part Number 2: 595-THS4531IRUNR; Eco-Plan: Green (RoHS & no Sb/Br); SubFamily: Fully Differential Amplifier; Vio(Max)(mV): 1; Vn at Flatband(Typ)(nV/rtHz): 10; Mounting Technology: Surface Mount; ComponentLink1Description: Manufacturer URL; ComponentLink1URL: http://www.ti.com/; ComponentLink2Description: Datasheet; ComponentLink2URL: http://www.ti.com/general/docs/lit/getliterature.tsp?genericPartNumber=THS4531&fileType=pdf; ComponentLink3Description: Package Specification; ComponentLink3URL: http://www.ti.com/lit/ml/mpqf225a/mpqf225a.pdf
footprint TI-RUN10_V (QFN, 10-Leads, Body 2x2mm, Pitch 0.5mm, TI Recommended)
part A pins: 1 VOUT- (out) "Inverted amplifier output", 3 ~{PD} (in) "Power-down, P\D\ = logic low = low power mode, P\D\ = logic high = normal operation", 4 VIN+ (in) "Noninverted amplifier input", 5 VS- (power) "Amplifier negative power-supply input. Note VS- tied together on multichannel devices.", 6 VIN- (in) "Inverting amplifier input", 7 VOCM (in) "Common-mode voltage input", 9 VOUT+ (out) "Noninverted amplifier output", 10 VS+ (power) "Amplifier positive power-supply input"
part B pins: 2 NC "No internal connection", 8 NC "No internal connection"

## THS4531IRUNT
designator U?
Ultra Low Power 0.25 mA, RRO, Fully Differential Amplifier, 2.5 to 5.5 V, -40 to 125 degC, 10-pin QFN (RUN10), Green (RoHS & no Sb/Br); Manufacturer: Texas Instruments; PartNumber: THS4531IRUNT; 2nd Harmonic(dBc): -128; 3rd Harmonic(dBc): -137; BW @ Acl(MHz): 24; Io(Typ)(mA): 26; Iq per channel(Max)(mA): 0.35; Number of Channels: 1; Offset Voltage Drift (+/-)(Max)(uV/Degrees Celsius: 10; Settling Time (0.1%)(Typ)(ns): 60; Slew Rate(Typ)(V/us): 15; THD (Fc is 1 MHz)(Typ)(dB): -107; Vs(Max)(V): 5.5; Vs(Min)(V): 2.5; DatasheetVersion: SLOS358B; PackageVersion: 4209107/B, 11/2010; PackageReference: RUN10; PackageDescription: 10-Pin Plastic Quad Flatpack No-Lead, Body 2 x 2 mm, Pitch 0.5 mm; Supplier 1: Digi-Key; Supplier Part Number 1: 296-30380-2-ND; Supplier 2: Digi-Key; Supplier Part Number 2: 296-30380-1-ND; Supplier 3: Digi-Key; Supplier Part Number 3: 296-30380-6-ND; Supplier 4: Farnell; Supplier Part Number 4: 2115229; Supplier 5: Newark; Supplier Part Number 5: 05W5828; Supplier 6: Mouser; Supplier Part Number 6: 595-THS4531IRUNT; Eco-Plan: Green (RoHS & no Sb/Br); SubFamily: Fully Differential Amplifier; Vio(Max)(mV): 1; Vn at Flatband(Typ)(nV/rtHz): 10; Mounting Technology: Surface Mount; ComponentLink1Description: Manufacturer URL; ComponentLink1URL: http://www.ti.com/; ComponentLink2Description: Datasheet; ComponentLink2URL: http://www.ti.com/general/docs/lit/getliterature.tsp?genericPartNumber=THS4531&fileType=pdf; ComponentLink3Description: Package Specification; ComponentLink3URL: http://www.ti.com/lit/ml/mpqf225a/mpqf225a.pdf
footprint TI-RUN10_V (QFN, 10-Leads, Body 2x2mm, Pitch 0.5mm, TI Recommended)
part A pins: 1 VOUT- (out) "Inverted amplifier output", 3 ~{PD} (in) "Power-down, P\D\ = logic low = low power mode, P\D\ = logic high = normal operation", 4 VIN+ (in) "Noninverted amplifier input", 5 VS- (power) "Amplifier negative power-supply input. Note VS- tied together on multichannel devices.", 6 VIN- (in) "Inverting amplifier input", 7 VOCM (in) "Common-mode voltage input", 9 VOUT+ (out) "Noninverted amplifier output", 10 VS+ (power) "Amplifier positive power-supply input"
part B pins: 2 NC "No internal connection", 8 NC "No internal connection"

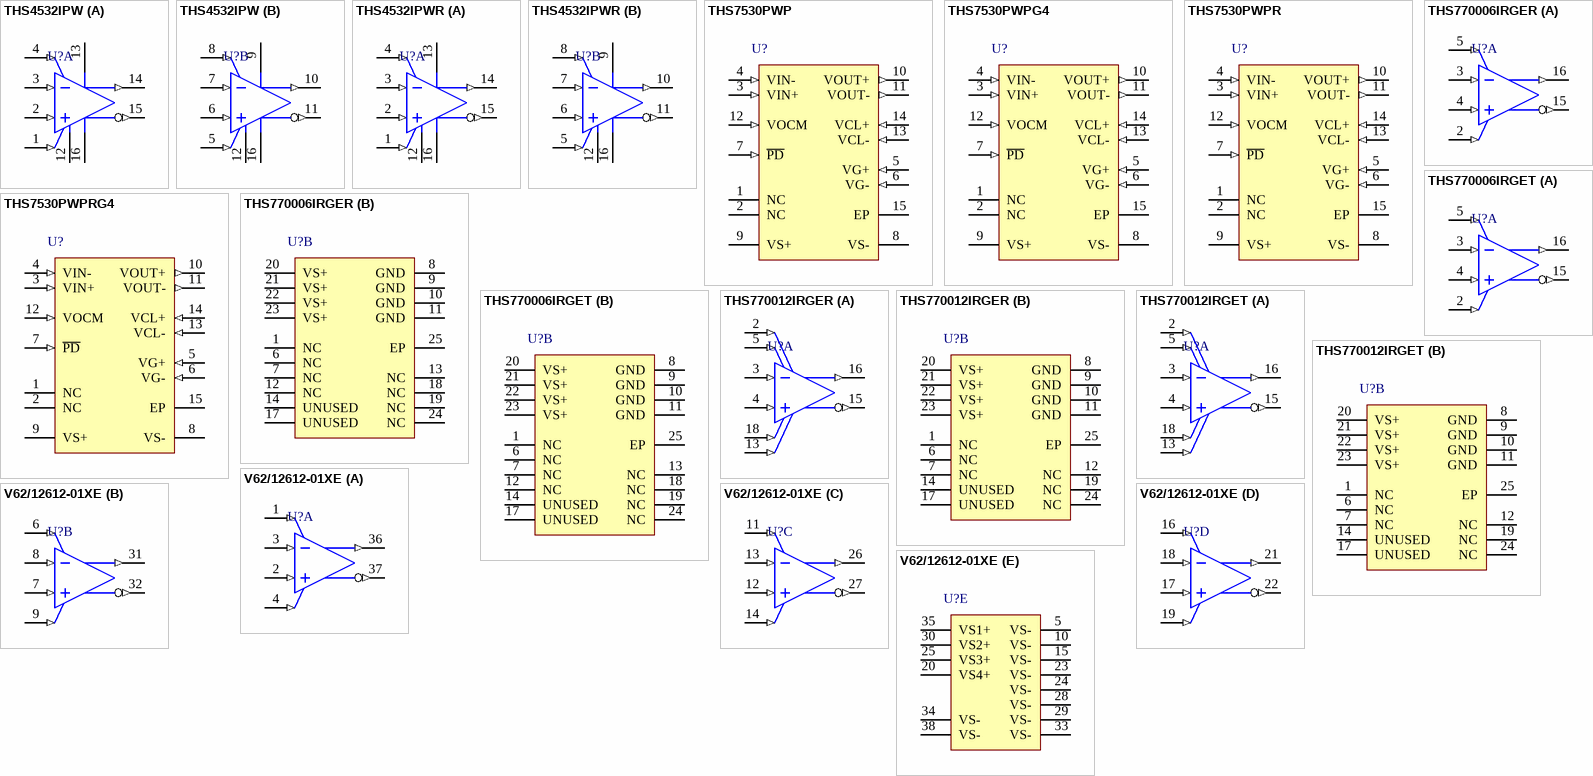
[diagram p7: symbols THS4532IPW to V62/12612-01XE]

## THS4532IPW
designator U?
Dual, Ultra Low Power 0.25 mA, RRO, Fully Differential Amplifier, 2.5 to 5.5 V, -40 to 125 degC, 16-pin SOP (PW16), Green (RoHS & no Sb/Br); Manufacturer: Texas Instruments; PartNumber: THS4532IPW; CMRR(Min)(dB): 90; GBW(Typ)(MHz): 27; Iq per channel(Max)(mA): 0.33; Number of Channels: 2; Offset Drift(Typ)(uV/C): 3; Packing: TUBE; Rating: Catalog; Slew Rate(Typ)(V/us): 14; Total Supply Voltage(Max)(+5V is 5, +/-5V is 10): 5.5; Total Supply Voltage(Min)(+5V is 5, +/-5V is 10): 2.5; Vio (25C)(Max)(mV): 0.4; DatasheetVersion: SLOS829; PackageVersion: 4040064-4/G, 02/2011; PackageReference: PW16; PackageDescription: 16-Pin Plastic Small Outline, Body 5 x 4.4 mm, Pitch 0.65 mm; Supplier 1: Digi-Key; Supplier Part Number 1: THS4532IPW-ND; Supplier 2: Mouser; Supplier Part Number 2: 595-THS4532IPW; Eco-Plan: Green (RoHS & no Sb/Br); SubFamily: Fully Differential Amplifier; Mounting Technology: Surface Mount; Code_JEDEC: MO-153; ComponentLink1Description: Manufacturer URL; ComponentLink1URL: http://www.ti.com/; ComponentLink2Description: Datasheet; ComponentLink2URL: http://www.ti.com/lit/ds/symlink/ths4532.pdf; ComponentLink3Description: Package Specification; ComponentLink3URL: http://www.ti.com/lit/ml/mpds361/mpds361.pdf
footprint TI-PW16_N (SOP, 16-Leads, Body 5x4.4mm, Pitch 0.65mm, IPC Medium Density)
footprint TI-PW16_L (SOP, 16-Leads, Body 5x4.4mm, Pitch 0.65mm, IPC High Density)
footprint TI-PW16_M (SOP, 16-Leads, Body 5x4.4mm, Pitch 0.65mm, IPC Low Density)
pins on every part: 12 VS- (power) "Negative power-supply input. Note VS- tied together on multichannel devices", 16 VS- (power) "Negative power-supply input. Note VS- tied together on multichannel devices"
part A pins: 1 ~{PD}1 (in) "Power-down 1, P\D\ = logic low = low power mode, P\D\ = logic high = normal operation (PIN MUST BE DRIVEN)", 2 VIN1+ (in) "Noninverting amplifier 1 input", 3 VIN1- (in) "Inverting amplifier 1 input", 4 VOCM1 (in) "Common-mode voltage input 1", 13 VS1+ (power) "Amplifier 1 positive power-supply input", 14 VOUT1+ (out) "Noninverting amplifier 1 output", 15 VOUT1- (out) "Inverting amplifier 1 output"
part B pins: 5 ~{PD}2 (in) "Amplifier 2 Power-down, P\D\ = logic low = low power mode, P\D\ = logic high = normal operation (PIN MUST BE DRIVEN)", 6 VIN2+ (in) "Noninverting amplifier 2 input", 7 VIN2- (in) "Inverting amplifier 2 input", 8 VOCM2 (in) "Common-mode voltage input 2", 9 VS2+ (power) "Amplifier 2 positive power-supply input", 10 VOUT2+ (out) "Noninverting amplifier 2 output", 11 VOUT2- (out) "Inverting amplifier 2 output"

## THS4532IPWR
designator U?
Dual, Ultra Low Power 0.25 mA, RRO, Fully Differential Amplifier, 2.5 to 5.5 V, -40 to 125 degC, 16-pin SOP (PW16), Green (RoHS & no Sb/Br); Manufacturer: Texas Instruments; PartNumber: THS4532IPWR; CMRR(Min)(dB): 90; GBW(Typ)(MHz): 27; Iq per channel(Max)(mA): 0.33; Number of Channels: 2; Offset Drift(Typ)(uV/C): 3; Packing: LARGE T&R; Rating: Catalog; Slew Rate(Typ)(V/us): 14; Total Supply Voltage(Max)(+5V is 5, +/-5V is 10): 5.5; Total Supply Voltage(Min)(+5V is 5, +/-5V is 10): 2.5; Vio (25C)(Max)(mV): 0.4; DatasheetVersion: SLOS829; PackageVersion: 4040064-4/G, 02/2011; PackageReference: PW16; PackageDescription: 16-Pin Plastic Small Outline, Body 5 x 4.4 mm, Pitch 0.65 mm; Supplier 1: Digi-Key; Supplier Part Number 1: THS4532IPWR-ND; Supplier 2: Newark; Supplier Part Number 2: 67W0207; Supplier 3: Mouser; Supplier Part Number 3: 595-THS4532IPWR; Eco-Plan: Green (RoHS & no Sb/Br); SubFamily: Fully Differential Amplifier; Mounting Technology: Surface Mount; Code_JEDEC: MO-153; ComponentLink1Description: Manufacturer URL; ComponentLink1URL: http://www.ti.com/; ComponentLink2Description: Datasheet; ComponentLink2URL: http://www.ti.com/lit/ds/symlink/ths4532.pdf; ComponentLink3Description: Package Specification; ComponentLink3URL: http://www.ti.com/lit/ml/mpds361/mpds361.pdf
footprint TI-PW16_N (SOP, 16-Leads, Body 5x4.4mm, Pitch 0.65mm, IPC Medium Density)
footprint TI-PW16_L (SOP, 16-Leads, Body 5x4.4mm, Pitch 0.65mm, IPC High Density)
footprint TI-PW16_M (SOP, 16-Leads, Body 5x4.4mm, Pitch 0.65mm, IPC Low Density)
pins on every part: 12 VS- (power) "Negative power-supply input. Note VS- tied together on multichannel devices", 16 VS- (power) "Negative power-supply input. Note VS- tied together on multichannel devices"
part A pins: 1 ~{PD}1 (in) "Power-down 1, P\D\ = logic low = low power mode, P\D\ = logic high = normal operation (PIN MUST BE DRIVEN)", 2 VIN1+ (in) "Noninverting amplifier 1 input", 3 VIN1- (in) "Inverting amplifier 1 input", 4 VOCM1 (in) "Common-mode voltage input 1", 13 VS1+ (power) "Amplifier 1 positive power-supply input", 14 VOUT1+ (out) "Noninverting amplifier 1 output", 15 VOUT1- (out) "Inverting amplifier 1 output"
part B pins: 5 ~{PD}2 (in) "Amplifier 2 Power-down, P\D\ = logic low = low power mode, P\D\ = logic high = normal operation (PIN MUST BE DRIVEN)", 6 VIN2+ (in) "Noninverting amplifier 2 input", 7 VIN2- (in) "Inverting amplifier 2 input", 8 VOCM2 (in) "Common-mode voltage input 2", 9 VS2+ (power) "Amplifier 2 positive power-supply input", 10 VOUT2+ (out) "Noninverting amplifier 2 output", 11 VOUT2- (out) "Inverting amplifier 2 output"